# Altium footprint library SM1.PcbLib: 8 footprints
Each footprint in its own frame and in the unit in brackets; x right, y up, seen from the top. Pads: shape width x height; smd on the part's side, far side on the other; paste and mask are expansions set on the pad; w line width, h text height; cw(c..) or ccw(c..) is an arc to the next point about the centre after c.
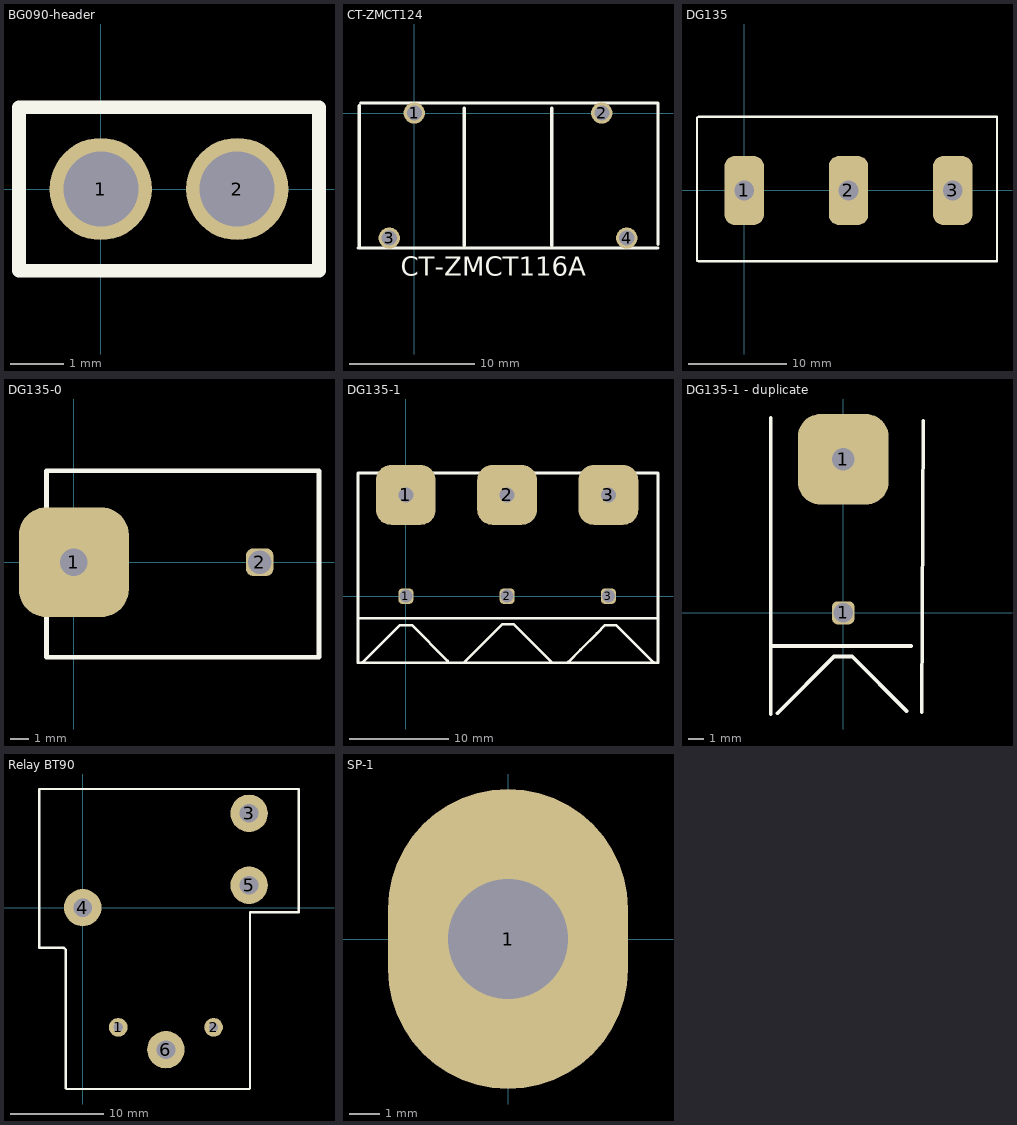
[diagram p0: the footprints below, top view; thin cyan lines are the x and y axes]

## BG090-header [mil]
pads (2):
  round 75 hole 55: 1(0,0) 2(100,0)
Top Overlay:
  lines w10: -60,-60 -60,60 160,60 160,-60 -60,-60

## CT-ZMCT124 [mm] "current transformer"
pads (4):
  round 1.7 hole 1.2: 1(0,0) 2(15,0) 3(-2,-10) 4(17,-10)
Top Overlay:
  lines w0.254: -4.5,-10.8 19.5,-10.8 ; -4.4,-10.7 -4.4,0.6 ; -4.3,0.8 19.5,0.8 19.5,-10.5 ; 4,-10.6 4,0.4 ; 11,-10.6 11,0.4
  text "CT-ZMCT116A" at -1.1,-13 h1.52

## DG135 [mm]
pads (3):
  rrect50% 4x7 hole 2: 1(0,0) 2(10.6,0) 3(21.2,0)
Top Overlay:
  lines w0.254: -4.8,-7.16 -4.8,7.4 ; -4.6,-7.2 25.68,-7.2 ; -4.6,7.5 25.68,7.5 ; 25.7,-7.06 25.7,7.5

## DG135-0 [mm]
pads (2):
  rrect50% 6x6 hole 1.5: 1(0,0)
  rrect50% 1.5x1.5 hole 1.3: 2(10.16,0)
Top Overlay:
  lines w0.254: -1.5,-5.2 13.4,-5.2 13.4,5 -1.5,5 -1.5,-5.2

## DG135-1 [mm]
pads (6):
  rrect50% 1.5x1.524 hole 1.3: 1(0,0) 2(10.16,0) 3(20.32,0)
  rrect50% 6x6 hole 1.5: 1(0,10.16) 2(10.16,10.16) 3(20.32,10.16)
Top Overlay:
  lines w0.254: -4.8,-2.56 -4.8,12.36 25.2,12.36 ; -4.8,-2.2 25.3,-2.2 ; -4.8,11.86 -4.8,-6.7 25.3,-6.7 25.3,-2.56 25.3,12.36 ; -4.35,-6.65 -0.6,-2.9 0.4,-2.9 0.6,-2.9 4.2,-6.5 ; 5.8,-6.7 9.7,-2.8 10.8,-2.8 14.7,-6.7 ; 16.3,-6.6 17.525,-5.375 19.175,-3.725 20,-2.9 21.1,-2.9 24.85,-6.65

## DG135-1 - duplicate [mm]
pads (2):
  rrect50% 1.5x1.524 hole 1.3: 1(0,0)
  rrect50% 6x6 hole 1.5: 1(0,10.16)
Top Overlay:
  lines w0.254: -4.8,-6.7 -4.8,11.86 ; -4.8,-2.56 -4.8,12.9 ; -4.8,-2.2 4.5,-2.2 ; -4.35,-6.65 -0.6,-2.9 0.4,-2.9 0.6,-2.9 4.2,-6.5 ; 5.2,-6.56 5.3,12.7

## Relay BT90 [mm]
pads (6):
  round 2 hole 1: 1(3.8,-12.8) 2(14,-12.8)
  round 4 hole 2: 3(17.8,10.1) 4(0,0) 5(17.8,2.4) 6(8.9,-15.2)
Bottom Layer:
  lines w0.254: -0.3,-0.9 -0.3,-0.4
Top Overlay:
  lines w0.254: -1.8,-19.304 -1.8,-4.5 -2,-4.3 -4.64,-4.3 -4.64,12.7 23.1,12.7 23.1,-0.508 17.9,-0.508 17.9,-19.304 ; -1.7,-19.404 17.8,-19.404 ; -1.2,-0.9 -0.5,-0.9

## SP-1 [mm]
pads (1):
  oval 8x10 hole 4: 1(0,0)